# EAGLE library part IM02TS (library Relay)
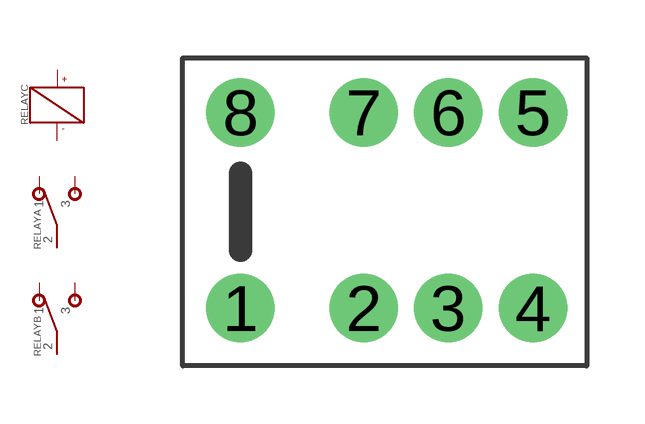
[diagram p2: symbol with the pads of 8-PIN; footprint 8-PIN]

Designator prefix RELAY; gates A=SPDT B=SPDT C=COIL

## IM02TSIM02TS  [8-PIN]
1  C:-
2  A:1  pas
3  A:2  pas
4  A:3  pas
5  B:3  pas
6  B:2  pas
7  B:1  pas
8  C:+

## Footprint 8-PIN (pad centres in mm)
drill 1 pad 1.778: 1 -3.81,-2.54; 2 -0.61,-2.54; 3 1.59,-2.54; 4 3.79,-2.54; 5 3.79,2.54; 6 1.59,2.54; 7 -0.61,2.54; 8 -3.81,2.54